# Altium schematic symbol library mine.SchLib: 13 symbols
Pins are listed as number, name and electrical type; pins without a type are passive.

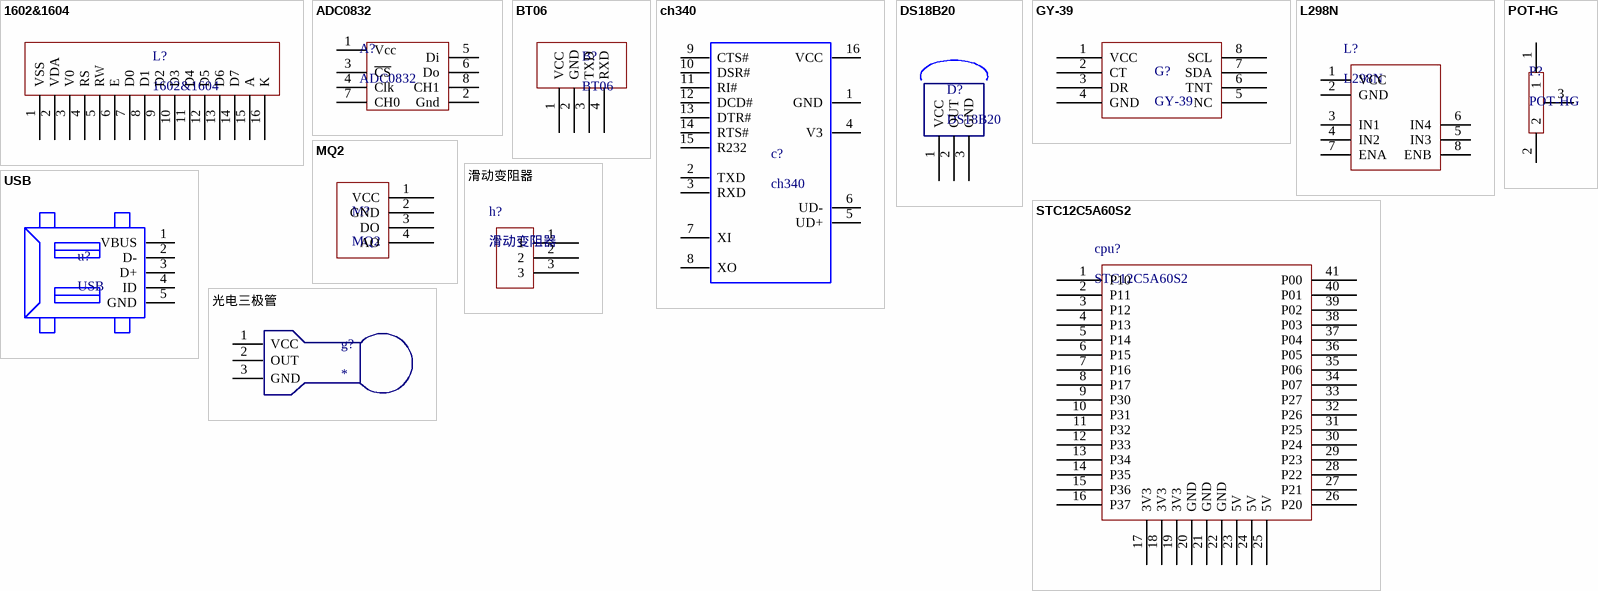
[diagram p0: symbols 1602&1604 to 滑动变阻器]

## 1602&1604
designator L?
pins: 1 VSS, 2 VDA, 3 V0, 4 RS, 5 RW, 6 E, 7 D0, 8 D1, 9 D2, 10 D3, 11 D4, 12 D5, 13 D6, 14 D7, 15 A, 16 K

## ADC0832
designator A?
pins: 1 Vcc, 2 Gnd, 3 ~{CS}, 4 Clk, 5 Di, 6 Do, 7 CH0, 8 CH1

## BT06
designator B?
pins: 1 VCC, 2 GND, 3 TXD, 4 RXD

## ch340
designator c?
pins: 1 GND, 2 TXD, 3 RXD, 4 V3, 5 UD+, 6 UD-, 7 XI, 8 XO, 9 CTS#, 10 DSR#, 11 RI#, 12 DCD#, 13 DTR#, 14 RTS#, 15 R232, 16 VCC

## DS18B20
designator D?
pins: 1 VCC, 2 OUT, 3 GND

## GY-39
designator G?
pins: 1 VCC, 2 CT, 3 DR, 4 GND, 5 NC, 6 TNT, 7 SDA, 8 SCL

## L298N
designator L?
pins: 1 VCC, 2 GND, 3 IN1, 4 IN2, 5 IN3, 6 IN4, 7 ENA, 8 ENB

## MQ2
designator M?
pins: 1 VCC, 2 GND, 3 DO, 4 AO

## POT-HG
designator P?
pins: 1, 2, 3

## STC12C5A60S2
designator cpu?
pins: 1 P10, 2 P11, 3 P12, 4 P13, 5 P14, 6 P15, 7 P16, 8 P17, 9 P30, 10 P31, 11 P32, 12 P33, 13 P34, 14 P35, 15 P36, 16 P37, 17 3V3, 18 3V3, 19 3V3, 20 GND, 21 GND, 22 GND, 23 5V, 24 5V, 25 5V, 26 P20, 27 P21, 28 P22, 29 P23, 30 P24, 31 P25, 32 P26, 33 P27, 34 P07, 35 P06, 36 P05, 37 P04, 38 P03, 39 P02, 40 P01, 41 P00

## USB
designator u?
pins: 1 VBUS, 2 D-, 3 D+, 4 ID, 5 GND

## 光电三极管
designator g?
pins: 1 VCC, 2 OUT, 3 GND

## 滑动变阻器
designator h?
pins: 1, 2, 3